# Altium integrated library PCB_SmartHome.IntLib: 14 symbols
Pins are listed as number, name and electrical type; pins without a type are passive.

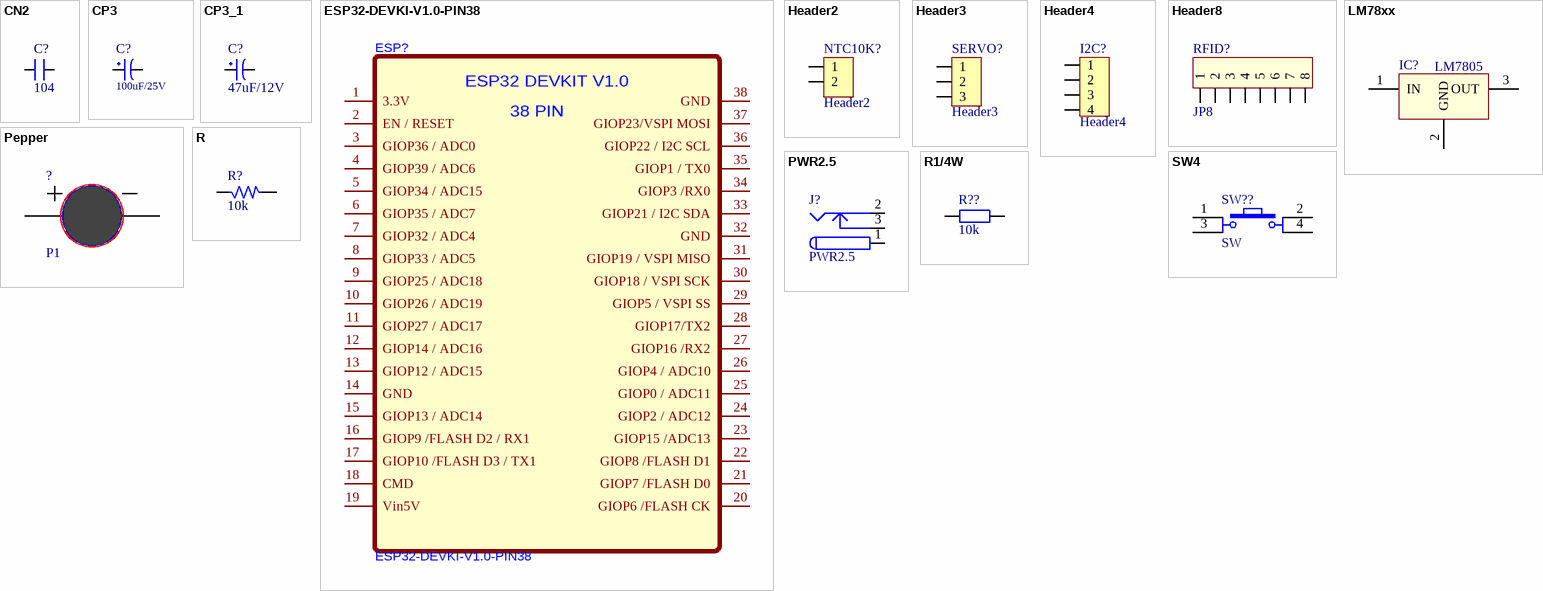
[diagram p0: symbols CN2 to SW4]

## CN2
designator C?, comment 104
Cap np 104 => 105pF; Value: 0.1uF
footprint CN2
pins: 1, 2

## CP3
designator C?, comment 100uF/25V
Cap 100uF/35V - 470uF/16V; Value: 100uF/35V/50V; Description 1: 1000uF/6,3V - 470uF/16V - 330uF - 25V; Description 2: 220uF/35V - 100uF/50V - 63V - 4,7uF/200V; Description 3: 22uF => 33uF100V - 3,3uF => 4,7uF/250V; Description 4: 2,2uF =>3,3uF/350 - 2,2uF/400V - 1uF/450V
footprint CP1.5/3.4 (Tu hoa 220->470uF,16V, 470uF/16V,25V)
pins: 1, 2

## CP3_1
designator C?, comment 47uF/12V
Cap 100uF/35V - 470uF/16V; Value: 100uF/35V/50V; Description 1: 1000uF/6,3V - 470uF/16V - 330uF - 25V; Description 2: 220uF/35V - 100uF/50V - 63V - 4,7uF/200V; Description 3: 22uF => 33uF100V - 3,3uF => 4,7uF/250V; Description 4: 2,2uF =>3,3uF/350 - 2,2uF/400V - 1uF/450V
footprint CP1.5/3.4 (Tu hoa 220->470uF,16V, 470uF/16V,25V)
pins: 1, 2

## ESP32-DEVKI-V1.0-PIN38
designator ESP?
footprint ESP32-DEVKIT-V1.0-38PIN-PCB - duplicate
pins: 1 3.3V, 2 EN / RESET, 3 GIOP36 / ADC0, 4 GIOP39 / ADC6, 5 GIOP34 / ADC15, 6 GIOP35 / ADC7, 7 GIOP32 / ADC4, 8 GIOP33 / ADC5, 9 GIOP25 / ADC18, 10 GIOP26 / ADC19, 11 GIOP27 / ADC17, 12 GIOP14 / ADC16, 13 GIOP12 / ADC15, 14 GND, 15 GIOP13 / ADC14, 16 GIOP9 /FLASH D2 / RX1, 17 GIOP10 /FLASH D3 / TX1, 18 CMD, 19 Vin5V, 20 GIOP6 /FLASH CK, 21 GIOP7 /FLASH D0, 22 GIOP8 /FLASH D1, 23 GIOP15 /ADC13, 24 GIOP2 / ADC12, 25 GIOP0 / ADC11, 26 GIOP4 / ADC10, 27 GIOP16 /RX2, 28 GIOP17/TX2, 29 GIOP5 / VSPI SS, 30 GIOP18 / VSPI SCK, 31 GIOP19 / VSPI MISO, 32 GND, 33 GIOP21 / I2C SDA, 34 GIOP3 /RX0, 35 GIOP1 / TX0, 36 GIOP22 / I2C SCL, 37 GIOP23/VSPI MOSI, 38 GND
text: ESP32 DEVKIT V1.0; 38 PIN

## Header2
designator NTC10K?
Header IDC, 2 x 1 Pin Vertical 2.54mm Pitch (Non-Boxed, Male); Manufacturer: W¨¹rth Elektronik eiSos GmbH; partNo: 613002143121; ComponentLink1 Description: Manufacturer; ComponentLink2 Description: Datasheet; NoPins: 02; Created Date: 29 March 2013; ComponentLink1URL: http://www.we-online.com; ComponentLink2URL: http://katalog.we-online.de/em/datasheet/6130xx143121.pdf; Created by: Karrer Zheng
footprint HDR2 (Connector; Header; 2 Position)
footprint Header2 (CON2)
pins: 1, 2

## Header3
designator SERVO?
Header IDC, 3 x 1 Pin Vertical 2.54mm Pitch (Non-Boxed, Male); Manufacturer: W¨¹rth Elektronik eiSos GmbH; partNo: 613002143121; ComponentLink1 Description: Manufacturer; ComponentLink2 Description: Datasheet; NoPins: 02; Created Date: 29 March 2013; ComponentLink1URL: http://www.we-online.com; ComponentLink2URL: http://katalog.we-online.de/em/datasheet/6130xx143121.pdf; Created by: Karrer Zheng
footprint HDR3 (Connector; Header; 3 Position)
footprint Header3 (CON 3)
pins: 1, 2, 3

## Header4
designator I2C?
Header IDC, 4 x 1 Pin Vertical 2.54mm Pitch (Non-Boxed, Male); Manufacturer: W¨¹rth Elektronik eiSos GmbH; partNo: 613002143121; ComponentLink1 Description: Manufacturer; ComponentLink2 Description: Datasheet; NoPins: 02; Created Date: 29 March 2013; ComponentLink1URL: http://www.we-online.com; ComponentLink2URL: http://katalog.we-online.de/em/datasheet/6130xx143121.pdf; Created by: Karrer Zheng
footprint HDR4 (Connector; Header; 4 Position)
footprint Header4 (CON4)
pins: 1, 2, 3, 4

## Header8
designator RFID?, comment JP8
Connector 8; Value: Connector 8
footprint Header8 (CON8)
pins: 1, 2, 3, 4, 5, 6, 7, 8

## LM78xx
designator IC?, comment LM7805
On ap +, from + 5 to + 24VDC; Value: LM7805
footprint QTO-220 (TO-220 - 1-2-3)
footprint QTO-220H3 (TO-220 1-2-3)
footprint QTO-220NH (TO-220 - 1-2-3)
pins: 1 IN, 2 GND, 3 OUT

## Pepper
designator ?, comment P1
Pepper 5V
footprint PCBComponent_1
pins: 1, 2

## PWR2.5
designator J?
Low Voltage Power Supply Connector; Published: 17-Dec-2003; DatasheetDocument: 09-May-2002; Publisher: Altium Limited; ComponentLink1Description: Manufacturer Link; ComponentLink1URL: http://domino.kycon.com/internet/Products.html
footprint PW-J-2MM (Power Header 2mm)
signal-integrity model Connector
pins: 1 (power), 2 (power), 3 (power)

## R
designator R?, comment 10k
Resistor 1/4W; Value: R1/4W - 1K
footprint SM-1206 (Compoment SMD 120x60mil)
footprint R1/8W (R 1/8W, 2 pin, 300mil)
footprint R1/4W (R 1/4W, 2 Pin, 350mil)
footprint R1/4WD (R 1/4W, 2 Pin, 150mil)
footprint AXIAL-0.5 (Resistor 500mil)
pins: 1, 2

## R1/4W
designator R??, comment 10k
Resistor 1/4W; Value: R1/4W - 1K
footprint R1/4W (R 1/4W, 2 Pin, 350mil)
footprint R1/8W (R 1/8W, 2 pin, 300mil)
footprint R1/2W (R 1/2W, 2 pin, 400mil)
footprint R1/4WD (R 1/4W, 2 Pin, 150mil)
footprint AXIAL-0.5 (Resistor 500mil)
pins: 1, 2

## SW4
designator SW??, comment SW
Switch button 4 pin; Value: Button chip 4 pin
footprint SW4 (SW button 4pin, 250 x250 mil)
footprint SW4B (SW button 4pin, 450 x 450 mil)
pins: 1, 2, 3, 4